# EAGLE library part TQFP_32 (library BHARADWAJ-AtMega8L)
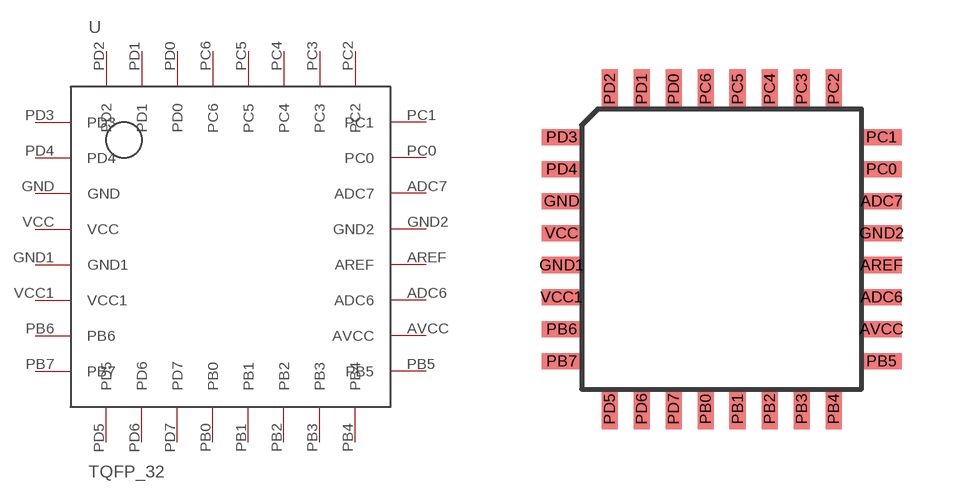
[diagram p0: symbol with the pads of TQFP_32; footprint TQFP_32]

Designator prefix -

## TQFP_32  [TQFP_32]
ADC6  ADC6
ADC7  ADC7
AREF  AREF
AVCC  AVCC
GND  GND
GND1  GND1
GND2  GND2
PB0  PB0
PB1  PB1
PB2  PB2
PB3  PB3
PB4  PB4
PB5  PB5
PB6  PB6
PB7  PB7
PC0  PC0
PC1  PC1
PC2  PC2
PC3  PC3
PC4  PC4
PC5  PC5
PC6  PC6
PD0  PD0
PD1  PD1
PD2  PD2
PD3  PD3
PD4  PD4
PD5  PD5
PD6  PD6
PD7  PD7
VCC  VCC
VCC1  VCC1

## Footprint TQFP_32 (pad centres in mm)
smd 1 x 0.4: ADC6 7.5,2.3; ADC7 7.5,4.7; AREF 7.5,3.1; AVCC 7.5,1.5; GND -0.5,4.7; GND1 -0.5,3.1; GND2 7.5,3.9; PB5 7.5,0.7; PB6 -0.5,1.5; PB7 -0.5,0.7; PC0 7.5,5.5; PC1 7.5,6.3; PD3 -0.5,6.3; PD4 -0.5,5.5; VCC -0.5,3.9; VCC1 -0.5,2.3
smd 0.4 x 1: PB0 3.1,-0.5; PB1 3.9,-0.5; PB2 4.7,-0.5; PB3 5.5,-0.5; PB4 6.3,-0.5; PC2 6.3,7.5; PC3 5.5,7.5; PC4 4.7,7.5; PC5 3.9,7.5; PC6 3.1,7.5; PD0 2.3,7.5; PD1 1.5,7.5; PD2 0.7,7.5; PD5 0.7,-0.5; PD6 1.5,-0.5; PD7 2.3,-0.5